# Altium footprint library PcbLib1.PcbLib: 12 footprints
Each footprint in its own frame and in the unit in brackets; x right, y up, seen from the top. Pads: shape width x height; smd on the part's side, far side on the other; paste and mask are expansions set on the pad; w line width, h text height; cw(c..) or ccw(c..) is an arc to the next point about the centre after c.
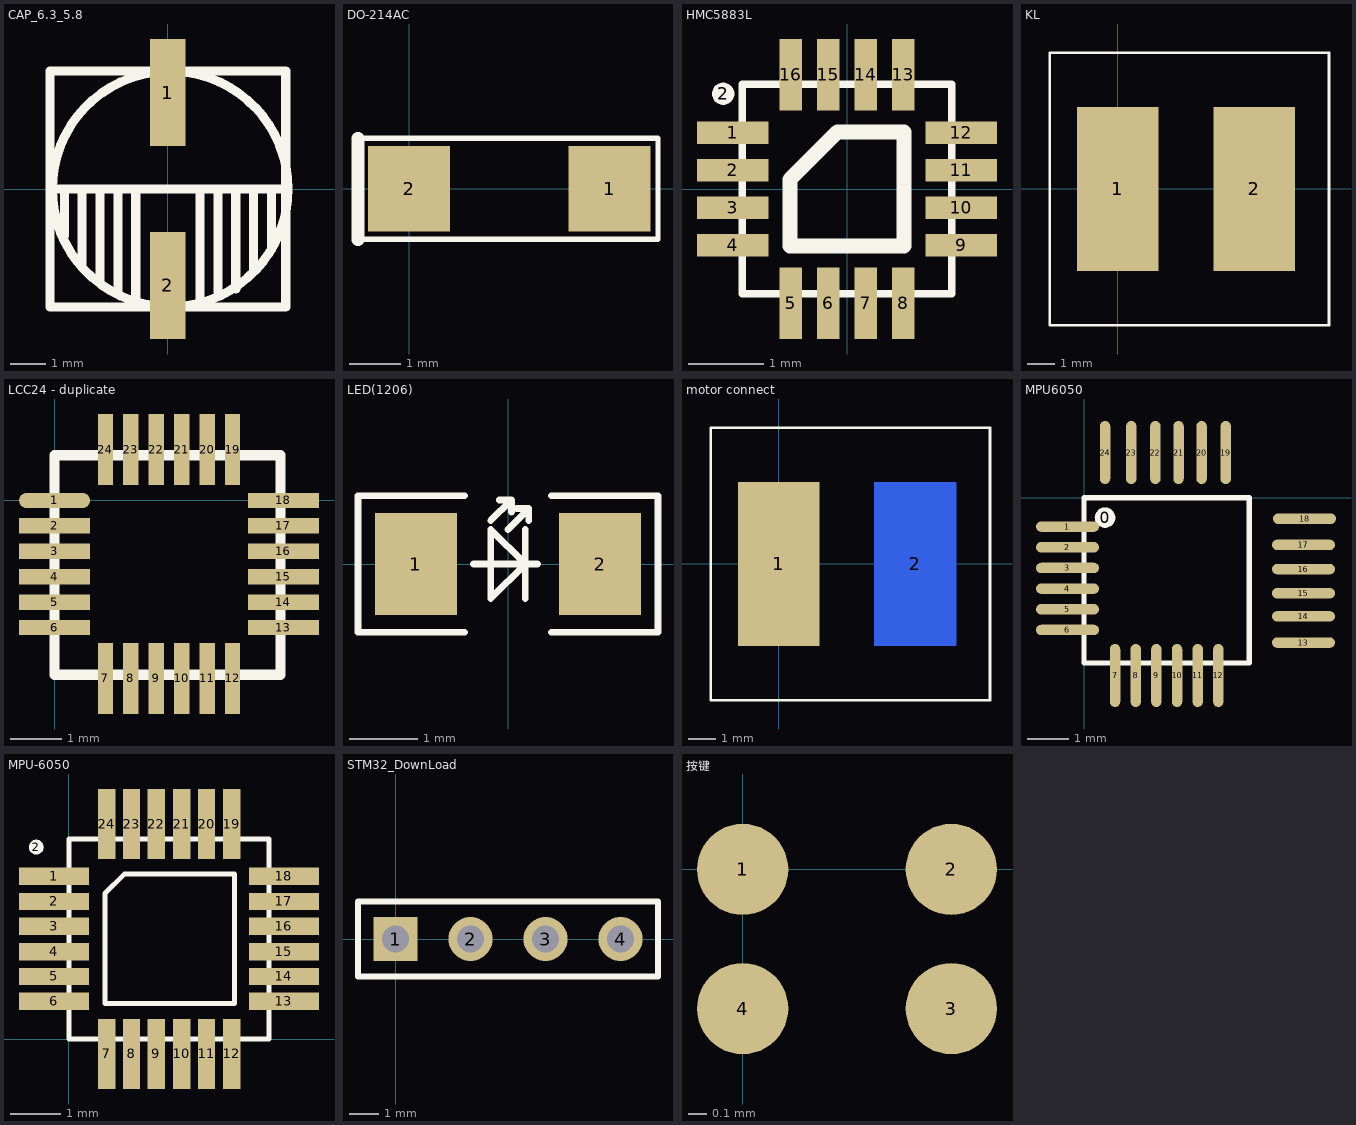
[diagram p0: the footprints below, top view; thin cyan lines are the x and y axes]

## CAP_6.3_5.8 [mm]
pads (2):
  rect 1x3 smd: 1(0,2.7) 2(0,-2.7)
Top Overlay:
  circle w0.254: c0.063,0 r3.3
  lines w0.254: -3.3,0 3.3,0 ; -2.9,-1.3 -2.9,0 ; -2.4,-2.2 -2.4,0 ; -1.9,-2.6 -1.9,0 ; -1.4,-2.9 -1.4,0 ; -0.9,-3.3 -0.9,0 ; 0.9,-3.3 0.9,0 ; 1.4,-3 1.4,0 ; 1.9,-2.8 1.9,0 ; 2.4,-2.3 2.4,0 ; 2.9,-1.7 2.9,-1.4 2.9,0 ; -3.3,-3.3 3.3,-3.3 3.3,3.3 -3.3,3.3 -3.3,-3.3

## DO-214AC [mm]
pads (2):
  rect 1.6x1.67 smd: 1(3.93,0) 2(0,0)
Top Overlay:
  lines w0.1: -1,0.99 4.88,0.99 4.88,-0.99 -0.97,-0.99
  lines w0.254: -1,-1 -1,0.99

## HMC5883L [mm]
pads (17):
  rect 0.95x0.3 smd: 1(-1.525,0.75) 2(-1.525,0.25) 3(-1.525,-0.25) 4(-1.525,-0.75) 9(1.525,-0.75) 10(1.525,-0.25) 11(1.525,0.25) 12(1.525,0.75)
  round 0.3 on Top Overlay: 2(-1.651,1.27)
  rect 0.3x0.95 smd: 5(-0.75,-1.525) 6(-0.25,-1.525) 7(0.25,-1.525) 8(0.75,-1.525) 13(0.75,1.525) 14(0.25,1.525) 15(-0.25,1.525) 16(-0.75,1.525)
Top Overlay:
  lines w0.1: -1.4,-1.4 -1.4,1.4 1.4,1.4 1.4,-1.4 -1.4,-1.4
  lines w0.2: -0.762,-0.762 -0.762,0.127 -0.127,0.762 0.762,0.762 0.762,-0.762 -0.762,-0.762

## KL [mm]
pads (2):
  rect 3x6 smd: 1(0,0) 2(5,0)
Top Overlay:
  lines w0.1: -2.5,-5 7.747,-5 7.747,5 -2.5,5 -2.5,-5

## LCC24 - duplicate [mm]
pads (24):
  oval 1.4x0.3 smd: 1(0,0)
  rect 1.4x0.3 smd: 2(0,-0.5) 3(0,-1) 4(0,-1.5) 5(0,-2) 6(0,-2.5) 13(4.5,-2.5) 14(4.5,-2) 15(4.5,-1.5) 16(4.5,-1) 17(4.5,-0.5) 18(4.5,0)
  rect 0.3x1.4 smd: 7(1,-3.5) 8(1.5,-3.5) 9(2,-3.5) 10(2.5,-3.5) 11(3,-3.5) 12(3.5,-3.5) 19(3.5,1) 20(3,1) 21(2.5,1) 22(2,1) 23(1.5,1) 24(1,1)
Top Overlay:
  lines w0.2: 0,-3.429 0,0.889 4.445,0.889 4.445,-3.429 0,-3.429

## LED(1206) [mm]
height 1.4
pads (2):
  rect 1.2x1.5 smd: 1(-1.35,0) 2(1.35,0)
Top Overlay:
  lines w0.1: -0.635,-1 -2.2,-1 -2.2,0 -2.2,1 -0.635,1 ; -0.508,0 0.432,0 ; -0.254,0.635 0.051,0.94 ; -0.127,0.94 0.051,0.94 ; 0,0.508 0.305,0.813 ; 0.051,0.762 0.051,0.94 ; 0.127,0.813 0.305,0.813 ; 0.254,-0.508 0.254,0.508 ; 0.305,0.635 0.305,0.813 ; 0.635,-1 2.2,-1 2.2,1 0.635,1 ; -0.254,-0.508 0.254,0 -0.254,0.508 -0.254,-0.508

## motor connect [mm]
pads (2):
  rect 3x6 smd: 1(0,0)
  rect 3x6 smd far side: 2(5,0)
Top Overlay:
  lines w0.1: -2.5,-5 7.747,-5 7.747,5 -2.5,5 -2.5,-5

## MPU6050 [mil]
pads (25):
  round 19.68 on Top Overlay: 0(20,-19)
  oval 60x9.84 smd: 1(-15.75,-27.56)
  oval 60x10 smd: 2(-15.75,-47.24) 3(-15.75,-66.93) 4(-15.75,-86.61) 5(-15.75,-106.3) 6(-15.75,-125.98) 13(209,-138) 14(209,-113) 15(209,-91) 16(209,-68) 17(209,-45) 18(210,-20)
  oval 10x60 smd: 7(29.53,-169.29) 8(49.21,-169.29) 9(68.9,-169.29) 10(88.58,-169.29) 11(108.27,-169.29) 12(127.95,-169.29) 19(135,43) 20(112,43) 21(90,43) 22(68,43) 23(45,43) 24(20,43)
Top Overlay:
  lines w5: 0,-157.48 0,0 157.48,0 157.48,-157.48 0,-157.48

## MPU-6050 [mm]
pads (25):
  rect 1.4x0.35 smd: 1(-0.3,3.25) 2(-0.3,2.75) 3(-0.3,2.25) 4(-0.3,1.75) 5(-0.3,1.25) 6(-0.3,0.75) 13(4.3,0.75) 14(4.3,1.25) 15(4.3,1.75) 16(4.3,2.25) 17(4.3,2.75) 18(4.3,3.25)
  round 0.3 on Top Overlay: 2(-0.655,3.837)
  rect 0.35x1.4 smd: 7(0.75,-0.3) 8(1.25,-0.3) 9(1.75,-0.3) 10(2.25,-0.3) 11(2.75,-0.3) 12(3.25,-0.3) 19(3.25,4.3) 20(2.75,4.3) 21(2.25,4.3) 22(1.75,4.3) 23(1.25,4.3) 24(0.75,4.3)
Top Overlay:
  lines w0.1: 0,0 0,4 4,4 4,0 0,0 ; 0.717,0.709 3.315,0.709 3.315,3.297 1.106,3.297 0.717,2.909 0.717,0.709

## PCBComponent_1 [mm]

## STM32_DownLoad [mm] "Connector; Header; 5 Position"
pads (4):
  rect 1.5x1.5 hole 0.9: 1(0,0)
  round 1.5 hole 0.9: 2(2.54,0) 3(5.08,0) 4(7.62,0)
Top Overlay:
  lines w0.2: -1.27,-1.27 8.89,-1.27 8.89,1.27 -1.27,1.27 -1.27,-1.27

## 按键 [mm]
pads (4):
  round 0.5 smd: 1(0,0) 2(1.143,0) 3(1.143,-0.762) 4(0,-0.762)